# Altium footprint library Base Board.PcbLib: 37 footprints (part 2 of 3)
Each footprint in its own frame and in the unit in brackets; x right, y up, seen from the top. Pads: shape width x height; smd on the part's side, far side on the other; paste and mask are expansions set on the pad; w line width, h text height; cw(c..) or ccw(c..) is an arc to the next point about the centre after c.
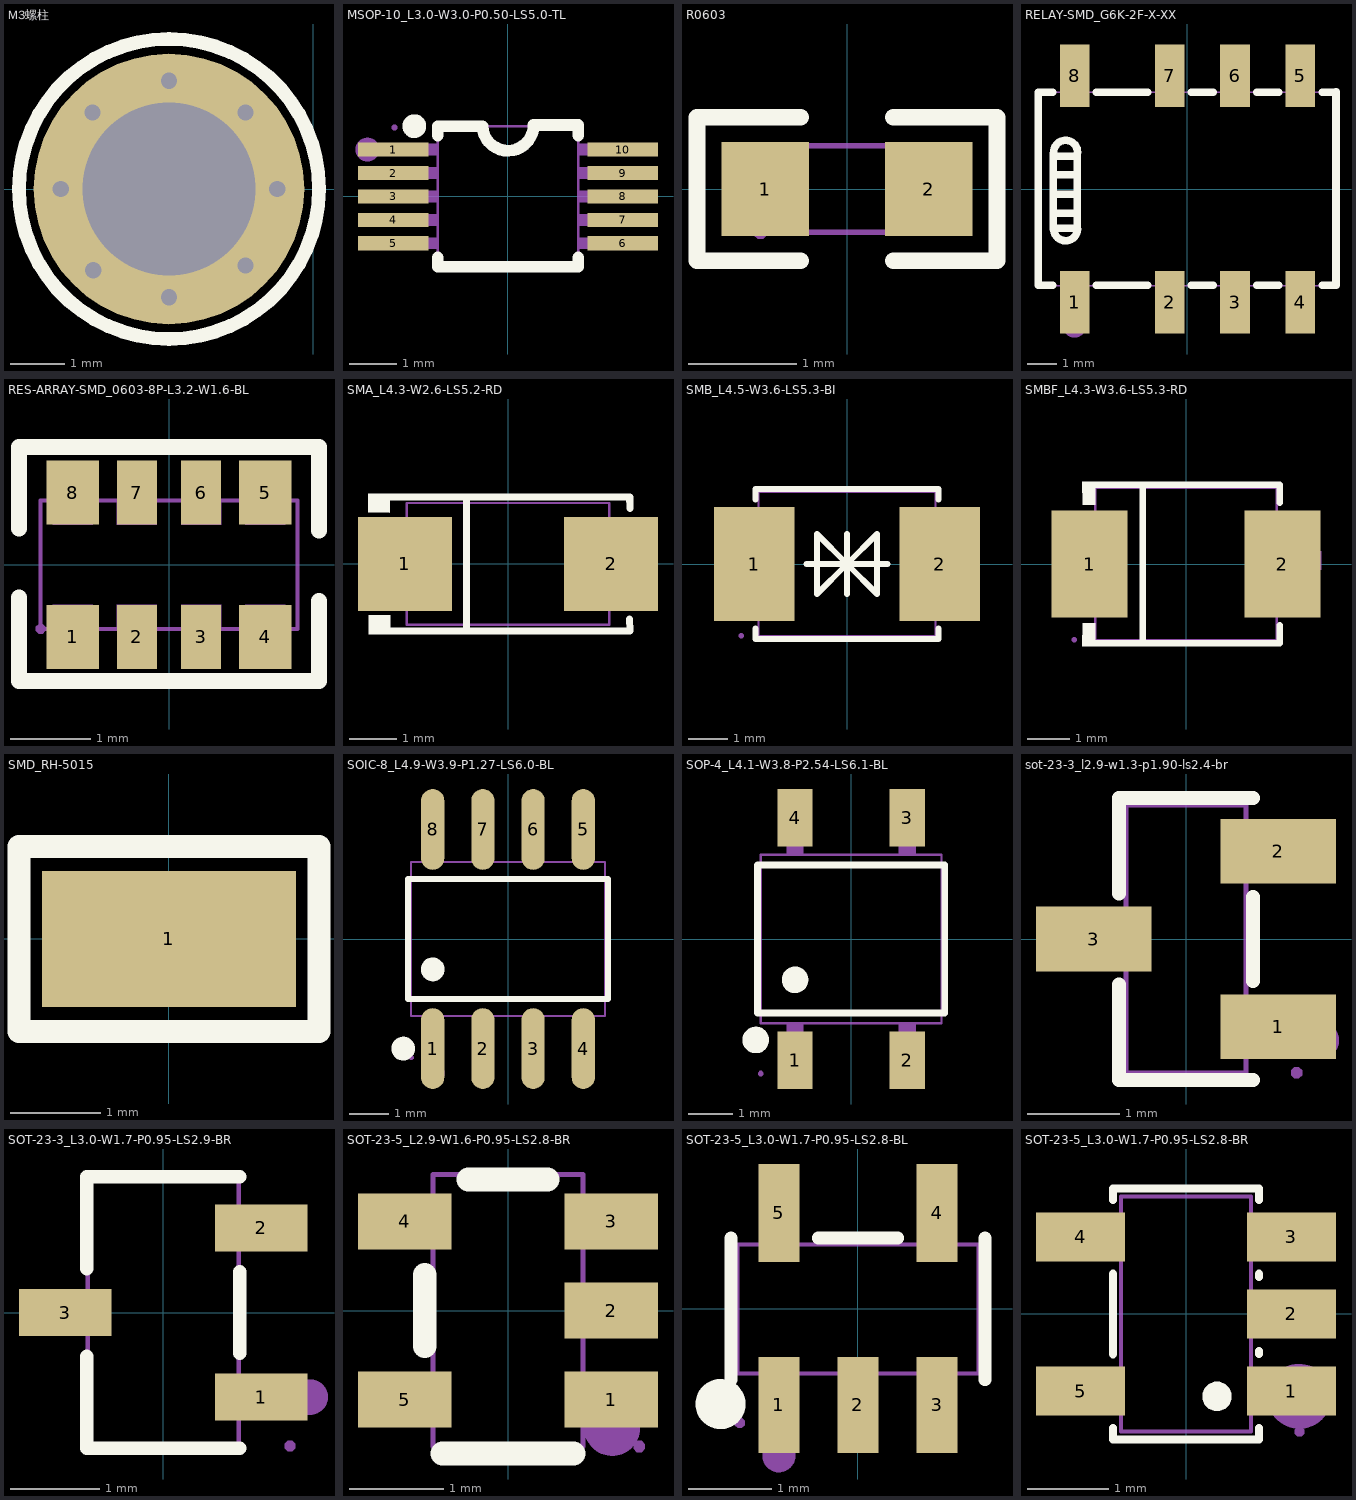
[diagram p1: the footprints below, top view; thin cyan lines are the x and y axes]

## M3螺柱 [mm]
pads (1):
  round 5 hole 3.2 paste-2539.97 mask+0: ""(-2.667,0)
via -1.253,1.414 diameter 0.6 hole 0.3
via -1.253,-1.414 diameter 0.6 hole 0.3
via -4.067,-1.5 diameter 0.6 hole 0.3
via -4.081,1.414 diameter 0.6 hole 0.3
via -0.667,0 diameter 0.6 hole 0.3
via -2.667,-2 diameter 0.6 hole 0.3
via -4.667,0 diameter 0.6 hole 0.3
via -2.667,2 diameter 0.6 hole 0.3
Top Overlay:
  circle w0.254: c-2.667,0 r2.773

## MSOP-10_L3.0-W3.0-P0.50-LS5.0-TL [mil]
pads (10):
  rect 59.05x12 smd: 1(-96.5,39.37) 2(-96.5,19.68) 3(-96.5,0) 4(-96.5,-19.69) 5(-96.5,-39.37) 6(96.5,-39.37) 7(96.5,-19.69) 8(96.5,0) 9(96.5,19.68) 10(96.5,39.37)
Top Overlay:
  circle w10: c-78.74,59.05 r5
  lines w10: -59.05,-51.19 -59.05,-59.05 59.05,-59.05 59.05,-51.19 ; -59.05,51.19 -59.05,59 -21.5,59 ccw(c-0.01,59.92) 21.5,60 59.05,60 59.05,51.19
Mechanical 6:
  circle w10: c-118.11,39.37 r5
Mechanical 15:
  region: -92.91,57.87 -92.91,56.9 -94.3,55.51 -96.25,55.51 -97.64,56.9 -97.64,57.87 -97.64,58.85 -96.25,60.24 -94.3,60.24 -92.91,58.85 -92.91,57.87
  region: 58.66,34.65 58.66,44.1 73.23,44.1 73.23,34.65
  region: 72.83,34.65 72.83,44.1 96.46,44.1 96.46,34.65
  region: 58.66,14.96 58.66,24.41 73.23,24.41 73.23,14.96
  region: 72.83,14.96 72.83,24.41 96.46,24.41 96.46,14.96
  region: 58.66,-4.72 58.66,4.73 73.23,4.73 73.23,-4.72
  region: 72.83,-4.72 72.83,4.73 96.46,4.73 96.46,-4.72
  region: 58.66,-24.41 58.66,-14.96 73.23,-14.96 73.23,-24.41
  region: 72.83,-24.41 72.83,-14.96 96.46,-14.96 96.46,-24.41
  region: 58.66,-44.09 58.66,-34.64 73.23,-34.64 73.23,-44.09
  region: 72.83,-44.09 72.83,-34.64 96.46,-34.64 96.46,-44.09
  region: -73.23,-44.09 -73.23,-34.64 -58.66,-34.64 -58.66,-44.09
  region: -96.46,-44.09 -96.46,-34.64 -72.83,-34.64 -72.83,-44.09
  region: -73.23,-24.41 -73.23,-14.96 -58.66,-14.96 -58.66,-24.41
  region: -96.46,-24.41 -96.46,-14.96 -72.83,-14.96 -72.83,-24.41
  region: -73.23,-4.72 -73.23,4.73 -58.66,4.73 -58.66,-4.72
  region: -96.46,-4.72 -96.46,4.73 -72.83,4.73 -72.83,-4.72
  region: -73.23,14.96 -73.23,24.41 -58.66,24.41 -58.66,14.96
  region: -96.46,14.96 -96.46,24.41 -72.83,24.41 -72.83,14.96
  region: -73.23,34.65 -73.23,44.1 -58.66,44.1 -58.66,34.65
  region: -96.46,34.65 -96.46,44.1 -72.83,44.1 -72.83,34.65
  lines w2: -59.05,-59.05 -59.05,59.05 59.05,59.05 59.05,-59.05 -59.05,-59.05

## R0603 [mm]
pads (2):
  rect 0.806x0.864 smd paste-100 mask+0.051: 1(-0.753,0) 2(0.753,0)
Top Overlay:
  lines w0.152: -0.426,-0.661 -1.385,-0.661 -1.385,0.661 -0.426,0.661 ; 0.426,-0.661 1.385,-0.661 1.385,0.661 0.426,0.661
Top Paste:
  region: 1.195,0.45 0.395,0.45 0.345,0.4 0.345,0.172 0.715,0.172 0.715,-0.158 0.345,-0.158 0.345,-0.4 0.395,-0.45 1.195,-0.45 1.245,-0.4 1.245,0.4
  region: -1.195,-0.45 -0.395,-0.45 -0.345,-0.4 -0.345,-0.172 -0.715,-0.172 -0.715,0.158 -0.345,0.158 -0.345,0.4 -0.395,0.45 -1.195,0.45 -1.245,0.4 -1.245,-0.4
Mechanical 15:
  region: -0.74,-0.4 -0.74,-0.425 -0.775,-0.46 -0.825,-0.46 -0.86,-0.425 -0.86,-0.4 -0.86,-0.375 -0.825,-0.34 -0.775,-0.34 -0.74,-0.375 -0.74,-0.4
  region: -0.8,-0.4 -0.8,0.4 -0.5,0.4 -0.5,-0.4
  region: 0.8,-0.4 0.8,0.4 0.5,0.4 0.5,-0.4
  lines w0.051: -0.8,-0.4 -0.8,0.4 0.8,0.4 0.8,-0.4 -0.8,-0.4

## RELAY-SMD_G6K-2F-X-XX [mm]
pads (8):
  rect 1x2.1 smd: 1(-3.8,-3.81) 2(-0.6,-3.81) 3(1.6,-3.81) 4(3.8,-3.81) 5(3.8,3.81) 6(1.6,3.81) 7(-0.6,3.81) 8(-3.8,3.81)
Top Overlay:
  lines w0.254: -4.531,-3.24 -5.02,-3.24 -5.02,3.26 -4.531,3.26 ; -4.514,-1.295 -4.514,1.195 ; -4.51,-1.35 -4.51,-1.32 -3.76,-1.32 -3.73,-1.32 ; -4.51,-0.81 -3.73,-0.81 ; -4.51,-0.18 -3.73,-0.18 ; -4.51,1.11 -3.76,1.11 -3.73,1.14 ; -4.509,-1.326 ccw(c-4.103,-1.337) -3.698,-1.354 ; -4.509,1.232 cw(c-4.103,1.232) -3.698,1.232 ; -4.48,0.48 -3.73,0.48 ; -3.704,-1.355 -3.704,1.195 ; -3.069,-3.24 -1.331,-3.24 ; -3.069,3.26 -1.331,3.26 ; 0.131,-3.24 0.869,-3.24 ; 0.131,3.26 0.869,3.26 ; 2.331,-3.24 3.069,-3.24 ; 2.331,3.26 3.069,3.26 ; 4.531,-3.24 5,-3.24 ; 4.531,3.26 5,3.26 ; 5,-3.23 5,3.27
Mechanical 6:
  circle w0.4: c-3.8,-4.6 r0.2
Mechanical 15:
  region: -5.1,-3.25 -5.1,-3.209 -5.041,-3.15 -4.959,-3.15 -4.9,-3.209 -4.9,-3.25 -4.9,-3.291 -4.959,-3.35 -5.041,-3.35 -5.1,-3.291 -5.1,-3.25
  region: -3.55,3.9 -3.55,3.05 -4.05,3.05 -4.05,3.9
  region: -0.35,3.9 -0.35,3.05 -0.85,3.05 -0.85,3.9
  region: 1.85,3.9 1.85,3.05 1.35,3.05 1.35,3.9
  region: 4.05,3.9 4.05,3.05 3.55,3.05 3.55,3.9
  region: 3.55,-3.9 3.55,-3.05 4.05,-3.05 4.05,-3.9
  region: -4.05,-3.9 -4.05,-3.05 -3.55,-3.05 -3.55,-3.9
  region: -0.85,-3.9 -0.85,-3.05 -0.35,-3.05 -0.35,-3.9
  region: 1.35,-3.9 1.35,-3.05 1.85,-3.05 1.85,-3.9
  lines w0.051: -5,-3.25 -5,3.25 5,3.25 5,-3.25 -5,-3.25

## RES-ARRAY-SMD_0603-8P-L3.2-W1.6-BL [mm]
pads (8):
  rect 0.65x0.8 smd: 1(-1.2,-0.9) 4(1.2,-0.9) 5(1.2,0.9) 8(-1.2,0.9)
  rect 0.5x0.8 smd: 2(-0.4,-0.9) 3(0.4,-0.9) 6(0.4,0.9) 7(-0.4,0.9)
Top Overlay:
  lines w0.2: -1.87,-0.41 -1.87,-1.45 1.87,-1.45 1.87,-0.45 ; -1.87,0.45 -1.87,1.47 1.87,1.47 1.87,0.43
Mechanical 15:
  region: 0.95,0.5 0.95,0.8 1.45,0.8 1.45,0.5
  region: -0.65,0.5 -0.65,0.8 -0.15,0.8 -0.15,0.5
  region: 0.95,-0.8 0.95,-0.5 1.45,-0.5 1.45,-0.8
  region: 0.15,0.5 0.15,0.8 0.65,0.8 0.65,0.5
  region: 0.15,-0.8 0.15,-0.5 0.65,-0.5 0.65,-0.8
  region: -0.65,-0.8 -0.65,-0.5 -0.15,-0.5 -0.15,-0.8
  region: -1.45,0.5 -1.45,0.8 -0.95,0.8 -0.95,0.5
  region: -1.45,-0.8 -1.45,-0.5 -0.95,-0.5 -0.95,-0.8
  region: -1.6,-0.86 -1.625,-0.86 -1.66,-0.825 -1.66,-0.775 -1.625,-0.74 -1.6,-0.74 -1.575,-0.74 -1.54,-0.775 -1.54,-0.825 -1.575,-0.86 -1.6,-0.86
  lines w0.051: -1.6,-0.8 1.6,-0.8 1.6,0.8 -1.6,0.8 -1.6,-0.8

## SMA_L4.3-W2.6-LS5.2-RD [mm]
pads (2):
  rect 2x2 smd: 1(-2.2,0) 2(2.2,0)
Top Overlay:
  region: -2.512,-1.096 -2.513,-1.503 -2.973,-1.498 -2.969,-1.096
  region: -2.52,1.502 -2.521,1.096 -2.981,1.1 -2.977,1.502
  lines w0.152: -2.596,-1.426 2.596,-1.426 ; -2.596,1.426 2.596,1.426 2.603,1.187 ; -0.884,-1.426 -0.884,1.426 ; 2.593,-1.176 2.6,-1.415
Mechanical 6:
  region: 2.014,-0.675 2.014,0.675 1.811,0.675 1.811,-0.675
  region: 2.29,-0.09 2.29,0.112 1.48,0.112 1.48,-0.09
  region: -2.317,-0.101 -2.317,0.101 -1.507,0.101 -1.507,-0.101
Mechanical 15:
  region: -1.48,0.725 -1.48,-0.725 -2.605,-0.725 -2.605,0.725
  region: 2.605,0.725 2.605,-0.725 1.48,-0.725 1.48,0.725
  region: -2.605,-1.24 -2.58,-1.24 -2.545,-1.275 -2.545,-1.325 -2.58,-1.36 -2.605,-1.36 -2.63,-1.36 -2.665,-1.325 -2.665,-1.275 -2.63,-1.24 -2.605,-1.24
  lines w0.051: -2.16,-1.3 2.16,-1.3 2.16,1.3 -2.16,1.3 -2.16,-1.3

## SMB_L4.5-W3.6-LS5.3-BI [mm]
pads (2):
  rect 2.024x2.884 smd: 1(-2.34,0) 2(2.34,0)
Top Overlay:
  lines w0.152: -2.304,-1.622 -2.304,-1.886 2.304,-1.886 2.304,-1.622 ; -2.304,1.622 -2.304,1.886 2.304,1.886 2.304,1.622 ; -1.016,0 1.016,0 ; 0,-0.762 0,0.762 ; 0,0 -0.762,-0.762 -0.762,0.762 0,0 ; 0,0 0.762,0.762 0.762,-0.762 0,0
Mechanical 15:
  region: 2.667,-1.03 1.527,-1.03 1.527,1.03 2.667,1.03
  region: -2.667,-1.03 -1.527,-1.03 -1.527,1.03 -2.667,1.03
  region: -2.668,-1.75 -2.643,-1.75 -2.608,-1.785 -2.608,-1.835 -2.643,-1.87 -2.668,-1.87 -2.692,-1.87 -2.727,-1.835 -2.727,-1.785 -2.692,-1.75 -2.668,-1.75
  lines w0.051: -2.227,-1.81 -2.227,1.81 2.227,1.81 2.227,-1.81 -2.227,-1.81

## SMBF_L4.3-W3.6-LS5.3-RD [mm]
pads (2):
  rect 1.8x2.54 smd: 1(-2.285,0) 2(2.285,0)
Top Overlay:
  region: -2.15,-1.952 -2.15,-1.4 -2.45,-1.4 -2.455,-1.952
  region: -2.15,1.952 -2.15,1.4 -2.45,1.4 -2.455,1.952
  lines w0.152: -2.226,-1.876 2.226,-1.876 2.226,-1.45 ; -2.226,1.876 2.226,1.876 2.226,1.45 ; -1.022,-1.883 -1.022,1.87
Mechanical 6:
  region: 2.13,0.938 2.562,0.938 2.562,-0.77 2.13,-0.77
  region: 3.2,0.3 3.2,-0.132 1.492,-0.132 1.492,0.3
  region: -3.166,0.254 -3.166,-0.178 -1.438,-0.178 -1.438,0.254
Mechanical 15:
  region: 2.65,-1.025 2.65,1.025 1.65,1.025 1.65,-1.025
  region: -2.65,-1.025 -2.65,1.025 -1.65,1.025 -1.65,-1.025
  region: -2.65,-1.86 -2.675,-1.86 -2.71,-1.825 -2.71,-1.775 -2.675,-1.74 -2.65,-1.74 -2.625,-1.74 -2.59,-1.775 -2.59,-1.825 -2.625,-1.86 -2.65,-1.86
  lines w0.051: -2.15,-1.8 2.15,-1.8 2.15,1.8 -2.15,1.8 -2.15,-1.8

## SMD_RH-5015 [mm]
pads (1):
  rect 2.8x1.5 smd: 1(0,0)
Top Overlay:
  lines w0.254: -1.651,-1.016 1.651,-1.016 1.651,1.016 -1.651,1.016 -1.651,-1.016
Mechanical 15:
  region: -1.25,0.6 1.25,0.6 1.25,-0.6 -1.25,-0.6
  region: 1.31,0.6 1.31,0.575 1.275,0.54 1.225,0.54 1.19,0.575 1.19,0.6 1.19,0.625 1.225,0.66 1.275,0.66 1.31,0.625 1.31,0.6
  lines w0.051: -1.25,-0.6 -1.25,0.6 1.25,0.6 1.25,-0.6 -1.25,-0.6

## SOIC-8_L4.9-W3.9-P1.27-LS6.0-BL [mm]
pads (8):
  oval 0.588x2.045 smd: 1(-1.905,-2.772) 2(-0.635,-2.772) 3(0.635,-2.772) 4(1.905,-2.772) 5(1.905,2.772) 6(0.635,2.772) 7(-0.635,2.772) 8(-1.905,2.772)
Top Overlay:
  circle w0.3: c-2.652,-2.772 r0.15
  circle w0.3: c-1.905,-0.769 r0.15
  lines w0.152: -2.526,-1.521 2.526,-1.521 2.526,1.521 -2.526,1.521 -2.526,-1.521
Mechanical 6:
  circle w0.3: c-1.905,-3.4 r0.15
Mechanical 15:
  region: 1.695,2.175 1.695,1.94 2.115,1.94 2.115,2.175
  region: 1.695,3 1.695,2.165 2.115,2.165 2.115,3
  region: 0.425,2.175 0.425,1.94 0.845,1.94 0.845,2.175
  region: 0.425,3 0.425,2.165 0.845,2.165 0.845,3
  region: -0.845,2.175 -0.845,1.94 -0.425,1.94 -0.425,2.175
  region: -0.845,3 -0.845,2.165 -0.425,2.165 -0.425,3
  region: -2.115,2.175 -2.115,1.94 -1.695,1.94 -1.695,2.175
  region: -2.115,3 -2.115,2.165 -1.695,2.165 -1.695,3
  region: 1.695,-2.175 1.695,-1.94 2.115,-1.94 2.115,-2.175
  region: 1.695,-3 1.695,-2.165 2.115,-2.165 2.115,-3
  region: 0.425,-2.175 0.425,-1.94 0.845,-1.94 0.845,-2.175
  region: 0.425,-3 0.425,-2.165 0.845,-2.165 0.845,-3
  region: -0.845,-2.175 -0.845,-1.94 -0.425,-1.94 -0.425,-2.175
  region: -0.845,-3 -0.845,-2.165 -0.425,-2.165 -0.425,-3
  region: -2.115,-2.175 -2.115,-1.94 -1.695,-1.94 -1.695,-2.175
  region: -2.115,-3 -2.115,-2.165 -1.695,-2.165 -1.695,-3
  region: -2.45,-3.06 -2.475,-3.06 -2.51,-3.025 -2.51,-2.975 -2.475,-2.94 -2.45,-2.94 -2.425,-2.94 -2.39,-2.975 -2.39,-3.025 -2.425,-3.06 -2.45,-3.06
  lines w0.051: -2.45,-1.95 2.45,-1.95 2.45,1.95 -2.45,1.95 -2.45,-1.95

## SOP-4_L4.1-W3.8-P2.54-LS6.1-BL [mm]
pads (4):
  rect 0.8x1.3 smd: 1(-1.27,-2.745) 2(1.27,-2.745) 3(1.27,2.745) 4(-1.27,2.745)
Top Overlay:
  circle w0.3: c-2.159,-2.286 r0.15
  circle w0.3: c-1.27,-0.924 r0.15
  lines w0.152: -2.121,-1.676 2.121,-1.676 2.121,1.676 -2.121,1.676 -2.121,-1.676
Mechanical 6:
  circle w0.3: c-1.27,-2.667 r0.15
Mechanical 15:
  region: 1.079,2.626 1.079,1.895 1.46,1.895 1.46,2.626
  region: 1.079,3.048 1.079,2.616 1.46,2.616 1.46,3.048
  region: -1.46,2.626 -1.46,1.895 -1.079,1.895 -1.079,2.626
  region: -1.46,3.048 -1.46,2.616 -1.079,2.616 -1.079,3.048
  region: 1.079,-2.626 1.079,-1.895 1.46,-1.895 1.46,-2.626
  region: 1.079,-3.048 1.079,-2.616 1.46,-2.616 1.46,-3.048
  region: -1.46,-2.626 -1.46,-1.895 -1.079,-1.895 -1.079,-2.626
  region: -1.46,-3.048 -1.46,-2.616 -1.079,-2.616 -1.079,-3.048
  region: -2.044,-2.988 -2.02,-2.988 -1.985,-3.023 -1.985,-3.073 -2.02,-3.108 -2.044,-3.108 -2.069,-3.108 -2.104,-3.073 -2.104,-3.023 -2.069,-2.988 -2.044,-2.988
  lines w0.051: -2.044,-1.905 2.044,-1.905 2.044,1.905 -2.044,1.905 -2.044,-1.905

## sot-23-3_l2.9-w1.3-p1.90-ls2.4-br [mm]
pads (3):
  rect 1.25x0.701 smd paste+0 mask+0.051: 1(1.001,-0.95) 2(1.001,0.95) 3(-1.001,0)
Top Overlay:
  lines w0.152: -0.726,-0.495 -0.726,-1.527 0.726,-1.527 ; -0.726,0.495 -0.726,1.527 0.726,1.527 ; 0.726,-0.455 0.726,0.455
Mechanical 6:
  circle w0.201: c1.46,-1.1 r0.099
Mechanical 15:
  region: -1.199,-0.216 -1.199,0.216 -0.899,0.216 -0.899,-0.216
  region: -0.909,-0.216 -0.909,0.216 -0.64,0.216 -0.64,-0.216
  region: 0.899,-1.166 0.899,-0.734 1.199,-0.734 1.199,-1.166
  region: 0.64,-1.166 0.64,-0.734 0.909,-0.734 0.909,-1.166
  region: 0.899,0.734 0.899,1.166 1.199,1.166 1.199,0.734
  region: 0.64,0.734 0.64,1.166 0.909,1.166 0.909,0.734
  region: 1.199,-1.511 1.174,-1.511 1.138,-1.476 1.138,-1.425 1.174,-1.389 1.199,-1.389 1.224,-1.389 1.26,-1.425 1.26,-1.476 1.224,-1.511 1.199,-1.511
  lines w0.051: -0.65,-1.45 0.65,-1.45 0.65,1.45 -0.65,1.45 -0.65,-1.45

## SOT-23-3_L3.0-W1.7-P0.95-LS2.9-BR [mm]
pads (3):
  rect 1.037x0.532 smd: 1(1.101,-0.95) 2(1.101,0.95) 3(-1.101,0)
Top Overlay:
  lines w0.152: -0.859,-0.495 -0.859,-1.526 0.859,-1.526 ; -0.859,0.495 -0.859,1.526 0.859,1.526 ; 0.859,-0.455 0.859,0.455
Mechanical 6:
  circle w0.2: c1.65,-0.95 r0.1
Mechanical 15:
  region: 1,-1.137 1,-0.762 1.425,-0.762 1.425,-1.137
  region: 0.815,-1.137 0.815,-0.762 1.01,-0.762 1.01,-1.137
  region: 1,0.762 1,1.137 1.425,1.137 1.425,0.762
  region: 0.815,0.762 0.815,1.137 1.01,1.137 1.01,0.762
  region: -1.425,-0.188 -1.425,0.188 -1,0.188 -1,-0.188
  region: -1.01,-0.188 -1.01,0.188 -0.815,0.188 -0.815,-0.188
  region: 1.485,-1.5 1.485,-1.525 1.45,-1.56 1.4,-1.56 1.365,-1.525 1.365,-1.5 1.365,-1.475 1.4,-1.44 1.45,-1.44 1.485,-1.475 1.485,-1.5
  lines w0.051: -0.85,-1.5 -0.85,1.5 0.85,1.5 0.85,-1.5 -0.85,-1.5

## SOT-23-5_L2.9-W1.6-P0.95-LS2.8-BR [mm]
pads (5):
  rect 1x0.6 smd paste+0 mask+0.05: 1(1.1,-0.95) 2(1.1,0) 3(1.1,0.95) 4(-1.1,0.95) 5(-1.1,-0.95)
Top Overlay:
  lines w0.254: -0.889,-0.381 -0.889,0.381 ; -0.699,-1.524 0.698,-1.524 ; -0.422,1.397 0.422,1.397
Mechanical 6:
  circle w0.3: c1.11,-1.25 r0.15
Mechanical 15:
  region: 0.96,-0.2 0.79,-0.2 0.79,0.2 0.96,0.2
  region: 1.4,-0.2 0.95,-0.2 0.95,0.2 1.4,0.2
  region: 0.96,0.75 0.79,0.75 0.79,1.15 0.96,1.15
  region: 1.4,0.75 0.95,0.75 0.95,1.15 1.4,1.15
  region: 0.96,-1.15 0.79,-1.15 0.79,-0.75 0.96,-0.75
  region: 1.4,-1.15 0.95,-1.15 0.95,-0.75 1.4,-0.75
  region: -0.79,0.75 -0.96,0.75 -0.96,1.15 -0.79,1.15
  region: -0.95,0.75 -1.4,0.75 -1.4,1.15 -0.95,1.15
  region: -0.79,-1.15 -0.96,-1.15 -0.96,-0.75 -0.79,-0.75
  region: -0.95,-1.15 -1.4,-1.15 -1.4,-0.75 -0.95,-0.75
  region: 1.34,-1.45 1.34,-1.425 1.375,-1.39 1.425,-1.39 1.46,-1.425 1.46,-1.45 1.46,-1.475 1.425,-1.51 1.375,-1.51 1.34,-1.475 1.34,-1.45
  lines w0.051: -0.8,-1.45 -0.8,1.45 0.8,1.45 0.8,-1.45 -0.8,-1.45

## SOT-23-5_L3.0-W1.7-P0.95-LS2.8-BL [mm]
pads (5):
  rect 0.49x1.157 smd: 1(-0.95,-1.154) 2(0,-1.154) 3(0.95,-1.154)
  rect 0.49x1.175 smd: 4(0.95,1.154) 5(-0.95,1.154)
Top Overlay:
  circle w0.3: c-1.651,-1.143 r0.15
  lines w0.152: -1.526,-0.851 -1.526,0.851 ; -0.476,0.851 0.476,0.851 ; 1.526,-0.851 1.526,0.851
Mechanical 6:
  circle w0.2: c-0.95,-1.763 r0.1
Mechanical 15:
  region: -1.125,-1.4 -1.125,-1 -0.775,-1 -0.775,-1.4
  region: -1.125,-1.01 -1.125,-0.74 -0.775,-0.74 -0.775,-1.01
  region: -0.175,-1.4 -0.175,-1 0.175,-1 0.175,-1.4
  region: -0.175,-1.01 -0.175,-0.74 0.175,-0.74 0.175,-1.01
  region: 0.775,-1.4 0.775,-1 1.125,-1 1.125,-1.4
  region: 0.775,-1.01 0.775,-0.74 1.125,-0.74 1.125,-1.01
  region: 0.775,1 0.775,1.4 1.125,1.4 1.125,1
  region: 0.775,0.74 0.775,1.01 1.125,1.01 1.125,0.74
  region: -1.125,1 -1.125,1.4 -0.775,1.4 -0.775,1
  region: -1.125,0.74 -1.125,1.01 -0.775,1.01 -0.775,0.74
  region: -1.42,-1.43 -1.445,-1.43 -1.48,-1.395 -1.48,-1.345 -1.445,-1.31 -1.42,-1.31 -1.395,-1.31 -1.36,-1.345 -1.36,-1.395 -1.395,-1.43 -1.42,-1.43
  lines w0.051: -1.45,-0.775 -1.45,0.775 1.45,0.775 1.45,-0.775 -1.45,-0.775

## SOT-23-5_L3.0-W1.7-P0.95-LS2.8-BR [mm]
pads (5):
  rect 1.1x0.6 smd: 1(1.3,-0.95) 2(1.3,0) 3(1.3,0.95) 4(-1.3,0.95) 5(-1.3,-0.95)
Top Overlay:
  region: 0.204,-1.016 0.204,-0.981 0.23,-0.915 0.28,-0.864 0.346,-0.837 0.416,-0.837 0.482,-0.864 0.532,-0.915 0.558,-0.981 0.558,-1.016 0.558,-1.051 0.532,-1.117 0.482,-1.168 0.416,-1.195 0.346,-1.195 0.28,-1.168 0.23,-1.117 0.204,-1.051 0.204,-1.016
  lines w0.1: -0.9,-1.404 -0.9,-1.55 0.9,-1.55 0.9,-1.404 ; -0.9,-0.496 -0.9,0.496 ; -0.9,1.404 -0.9,1.55 0.9,1.55 0.9,1.404 ; 0.9,-0.496 0.9,-0.454 ; 0.9,0.454 0.9,0.496
Mechanical 6:
  circle w0.4: c1.397,-1.016 r0.2
Mechanical 15:
  region: -1.4,-1.15 -1.4,-0.75 -0.95,-0.75 -0.95,-1.15
  region: -0.96,-1.15 -0.96,-0.75 -0.79,-0.75 -0.79,-1.15
  region: -1.4,0.75 -1.4,1.15 -0.95,1.15 -0.95,0.75
  region: -0.96,0.75 -0.96,1.15 -0.79,1.15 -0.79,0.75
  region: 0.95,0.75 0.95,1.15 1.4,1.15 1.4,0.75
  region: 0.79,0.75 0.79,1.15 0.96,1.15 0.96,0.75
  region: 0.95,-0.2 0.95,0.2 1.4,0.2 1.4,-0.2
  region: 0.79,-0.2 0.79,0.2 0.96,0.2 0.96,-0.2
  region: 0.95,-1.15 0.95,-0.75 1.4,-0.75 1.4,-1.15
  region: 0.79,-1.15 0.79,-0.75 0.96,-0.75 0.96,-1.15
  region: 1.4,-1.51 1.375,-1.51 1.34,-1.475 1.34,-1.425 1.375,-1.39 1.4,-1.39 1.425,-1.39 1.46,-1.425 1.46,-1.475 1.425,-1.51 1.4,-1.51
  lines w0.051: -0.8,-1.45 -0.8,1.45 0.8,1.45 0.8,-1.45 -0.8,-1.45